# EAGLE library part LP2951ACDG (library ON Semiconductor_By_element14_Batch_1)
Low Power Low Dropout Voltage Regulator
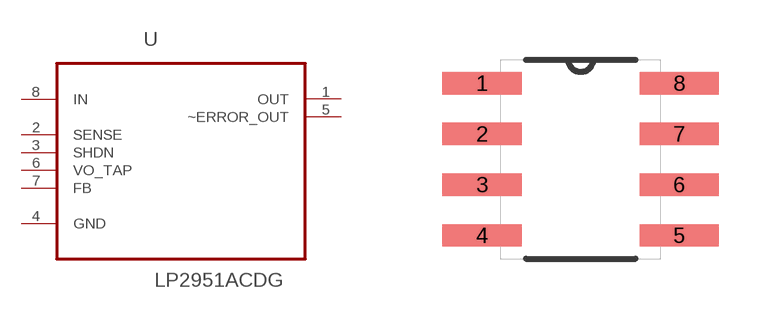
[diagram p70: symbol with the pads of SOIC127P600X175-8N; footprint SOIC127P600X175-8N]

Designator prefix U

## LP2951ACDG (MPN: LP2951ACDG; OC_FARNELL: 1652328; OC_NEWARK: 26K3642; P1I: o; PACKAGE: 8-SOIC; SUPPLIER: ON Semi)  [SOIC127P600X175-8N]
1  OUT  out
2  SENSE  in
3  SHDN  in
4  GND  pas
5  ~ERROR_OUT  out
6  VO_TAP  in
7  FB  in
8  IN  in

## Footprint SOIC127P600X175-8N (pad centres in mm)
smd 1.981 x 0.559: 1 -2.464,1.905; 2 -2.464,0.635; 3 -2.464,-0.635; 4 -2.464,-1.905; 5 2.464,-1.905; 6 2.464,-0.635; 7 2.464,0.635; 8 2.464,1.905